# EAGLE library part FMC-LPC-ZED_NOCC (library fmc-lpc)
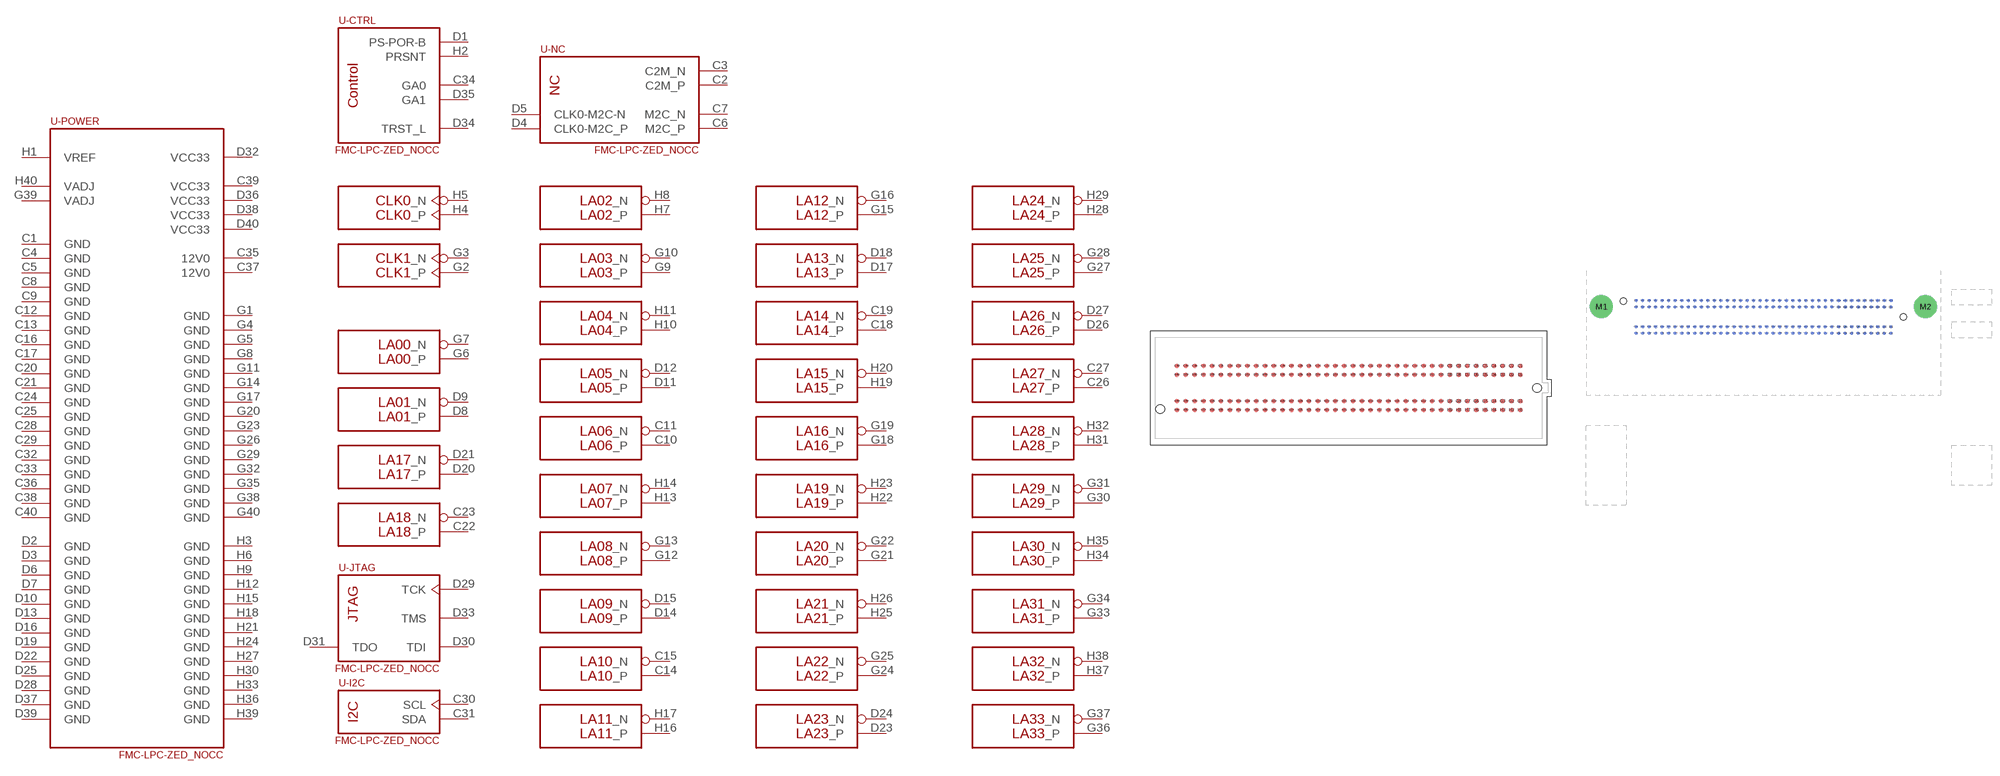
[diagram p2: symbol with the pads of ASP-134604-01; footprints ASP-134604-01, ASP-134604-01-ZED]

Designator prefix -; gates -CTRL=CTRL CLK0=CLK CLK1=CLK LA02=LA LA03=LA LA04=LA LA05=LA LA06=LA LA07=LA LA08=LA LA09=LA LA10=LA LA11=LA LA12=LA LA13=LA LA14=LA LA15=LA LA16=LA LA19=LA LA20=LA LA21=LA LA22=LA LA23=LA LA24=LA LA25=LA LA26=LA LA27=LA LA28=LA LA29=LA LA30=LA LA31=LA LA32=LA LA33=LA LA00=LA LA01=LA LA17=LA LA18=LA -POWER=POWER -JTAG=JTAG -I2C=I2C -NC=NC

## FMC-LPC-ZED_NOCC  [ASP-134604-01]
C1  -POWER:GND
C2  -NC:C2M_P  nc
C3  -NC:C2M_N  nc
C4  -POWER:GND
C5  -POWER:GND
C6  -NC:M2C_P  nc
C7  -NC:M2C_N  nc
C8  -POWER:GND
C9  -POWER:GND
C10  LA06:_P
C11  LA06:_N
C12  -POWER:GND
C13  -POWER:GND
C14  LA10:_P
C15  LA10:_N
C16  -POWER:GND
C17  -POWER:GND
C18  LA14:_P
C19  LA14:_N
C20  -POWER:GND
C21  -POWER:GND
C22  LA18:_P
C23  LA18:_N
C24  -POWER:GND
C25  -POWER:GND
C26  LA27:_P
C27  LA27:_N
C28  -POWER:GND
C29  -POWER:GND
C30  -I2C:SCL
C31  -I2C:SDA
C32  -POWER:GND
C33  -POWER:GND
C34  -CTRL:GA0  out
C35  -POWER:12V0
C36  -POWER:GND
C37  -POWER:12V0
C38  -POWER:GND
C39  -POWER:VCC33
C40  -POWER:GND
D1  -CTRL:PS-POR-B  out
D2  -POWER:GND
D3  -POWER:GND
D4  -NC:CLK0-M2C_P  nc
D5  -NC:CLK0-M2C-N  nc
D6  -POWER:GND
D7  -POWER:GND
D8  LA01:_P
D9  LA01:_N
D10  -POWER:GND
D11  LA05:_P
D12  LA05:_N
D13  -POWER:GND
D14  LA09:_P
D15  LA09:_N
D16  -POWER:GND
D17  LA13:_P
D18  LA13:_N
D19  -POWER:GND
D20  LA17:_P
D21  LA17:_N
D22  -POWER:GND
D23  LA23:_P
D24  LA23:_N
D25  -POWER:GND
D26  LA26:_P
D27  LA26:_N
D28  -POWER:GND
D29  -JTAG:TCK  out
D30  -JTAG:TDI  out
D31  -JTAG:TDO  in
D32  -POWER:VCC33
D33  -JTAG:TMS  out
D34  -CTRL:TRST_L
D35  -CTRL:GA1  out
D36  -POWER:VCC33
D37  -POWER:GND
D38  -POWER:VCC33
D39  -POWER:GND
D40  -POWER:VCC33
G1  -POWER:GND
G2  CLK1:_P
G3  CLK1:_N
G4  -POWER:GND
G5  -POWER:GND
G6  LA00:_P
G7  LA00:_N
G8  -POWER:GND
G9  LA03:_P
G10  LA03:_N
G11  -POWER:GND
G12  LA08:_P
G13  LA08:_N
G14  -POWER:GND
G15  LA12:_P
G16  LA12:_N
G17  -POWER:GND
G18  LA16:_P
G19  LA16:_N
G20  -POWER:GND
G21  LA20:_P
G22  LA20:_N
G23  -POWER:GND
G24  LA22:_P
G25  LA22:_N
G26  -POWER:GND
G27  LA25:_P
G28  LA25:_N
G29  -POWER:GND
G30  LA29:_P
G31  LA29:_N
G32  -POWER:GND
G33  LA31:_P
G34  LA31:_N
G35  -POWER:GND
G36  LA33:_P
G37  LA33:_N
G38  -POWER:GND
G39  -POWER:VADJ
G40  -POWER:GND
H1  -POWER:VREF
H2  -CTRL:PRSNT  out
H3  -POWER:GND
H4  CLK0:_P
H5  CLK0:_N
H6  -POWER:GND
H7  LA02:_P
H8  LA02:_N
H9  -POWER:GND
H10  LA04:_P
H11  LA04:_N
H12  -POWER:GND
H13  LA07:_P
H14  LA07:_N
H15  -POWER:GND
H16  LA11:_P
H17  LA11:_N
H18  -POWER:GND
H19  LA15:_P
H20  LA15:_N
H21  -POWER:GND
H22  LA19:_P
H23  LA19:_N
H24  -POWER:GND
H25  LA21:_P
H26  LA21:_N
H27  -POWER:GND
H28  LA24:_P
H29  LA24:_N
H30  -POWER:GND
H31  LA28:_P
H32  LA28:_N
H33  -POWER:GND
H34  LA30:_P
H35  LA30:_N
H36  -POWER:GND
H37  LA32:_P
H38  LA32:_N
H39  -POWER:GND
H40  -POWER:VADJ

## FMC-LPC-ZED_NOCCZED  [ASP-134604-01-ZED]
Pads as for ASP-134604-01

## Footprint ASP-134604-01 (pad centres in mm)
smd 0.635 x 0.635: C1 24.765,3.175; C2 23.495,3.175; C3 22.225,3.175; C4 20.955,3.175; C5 19.685,3.175; C6 18.415,3.175; C7 17.145,3.175; C8 15.875,3.175; C9 14.605,3.175; C10 13.335,3.175; C11 12.065,3.175; C12 10.795,3.175; C13 9.525,3.175; C14 8.255,3.175; C15 6.985,3.175; C16 5.715,3.175; C17 4.445,3.175; C18 3.175,3.175; C19 1.905,3.175; C20 0.635,3.175; C21 -0.635,3.175; C22 -1.905,3.175; C23 -3.175,3.175; C24 -4.445,3.175; C25 -5.715,3.175; C26 -6.985,3.175; C27 -8.255,3.175; C28 -9.525,3.175; C29 -10.795,3.175; C30 -12.065,3.175; C31 -13.335,3.175; C32 -14.605,3.175; C33 -15.875,3.175; C34 -17.145,3.175; C35 -18.415,3.175; C36 -19.685,3.175; C37 -20.955,3.175; C38 -22.225,3.175; C39 -23.495,3.175; C40 -24.765,3.175; D1 24.765,1.905; D2 23.495,1.905; D3 22.225,1.905; D4 20.955,1.905; D5 19.685,1.905; D6 18.415,1.905; D7 17.145,1.905; D8 15.875,1.905; D9 14.605,1.905; D10 13.335,1.905; D11 12.065,1.905; D12 10.795,1.905; D13 9.525,1.905; D14 8.255,1.905; D15 6.985,1.905; D16 5.715,1.905; D17 4.445,1.905; D18 3.175,1.905; D19 1.905,1.905; D20 0.635,1.905; D21 -0.635,1.905; D22 -1.905,1.905; D23 -3.175,1.905; D24 -4.445,1.905; D25 -5.715,1.905; D26 -6.985,1.905; D27 -8.255,1.905; D28 -9.525,1.905; D29 -10.795,1.905; D30 -12.065,1.905; D31 -13.335,1.905; D32 -14.605,1.905; D33 -15.875,1.905; D34 -17.145,1.905; D35 -18.415,1.905; D36 -19.685,1.905; D37 -20.955,1.905; D38 -22.225,1.905; D39 -23.495,1.905; D40 -24.765,1.905; G1 24.765,-1.905; G2 23.495,-1.905; G3 22.225,-1.905; G4 20.955,-1.905; G5 19.685,-1.905; G6 18.415,-1.905; G7 17.145,-1.905; G8 15.875,-1.905; G9 14.605,-1.905; G10 13.335,-1.905; G11 12.065,-1.905; G12 10.795,-1.905; G13 9.525,-1.905; G14 8.255,-1.905; G15 6.985,-1.905; G16 5.715,-1.905; G17 4.445,-1.905; G18 3.175,-1.905; G19 1.905,-1.905; G20 0.635,-1.905; G21 -0.635,-1.905; G22 -1.905,-1.905; G23 -3.175,-1.905; G24 -4.445,-1.905; G25 -5.715,-1.905; G26 -6.985,-1.905; G27 -8.255,-1.905; G28 -9.525,-1.905; G29 -10.795,-1.905; G30 -12.065,-1.905; G31 -13.335,-1.905; G32 -14.605,-1.905; G33 -15.875,-1.905; G34 -17.145,-1.905; G35 -18.415,-1.905; G36 -19.685,-1.905; G37 -20.955,-1.905; G38 -22.225,-1.905; G39 -23.495,-1.905; G40 -24.765,-1.905; H1 24.765,-3.175; H2 23.495,-3.175; H3 22.225,-3.175; H4 20.955,-3.175; H5 19.685,-3.175; H6 18.415,-3.175; H7 17.145,-3.175; H8 15.875,-3.175; H9 14.605,-3.175; H10 13.335,-3.175; H11 12.065,-3.175; H12 10.795,-3.175; H13 9.525,-3.175; H14 8.255,-3.175; H15 6.985,-3.175; H16 5.715,-3.175; H17 4.445,-3.175; H18 3.175,-3.175; H19 1.905,-3.175; H20 0.635,-3.175; H21 -0.635,-3.175; H22 -1.905,-3.175; H23 -3.175,-3.175; H24 -4.445,-3.175; H25 -5.715,-3.175; H26 -6.985,-3.175; H27 -8.255,-3.175; H28 -9.525,-3.175; H29 -10.795,-3.175; H30 -12.065,-3.175; H31 -13.335,-3.175; H32 -14.605,-3.175; H33 -15.875,-3.175; H34 -17.145,-3.175; H35 -18.415,-3.175; H36 -19.685,-3.175; H37 -20.955,-3.175; H38 -22.225,-3.175; H39 -23.495,-3.175; H40 -24.765,-3.175
hole 1.27 at 27.191,0
hole 1.27 at -27.191,-3.048

## Footprint ASP-134604-01-ZED (pad centres in mm)
smd 0.635 x 0.635 bottom: C1 24.765,-3.175; C2 23.495,-3.175; C3 22.225,-3.175; C4 20.955,-3.175; C5 19.685,-3.175; C6 18.415,-3.175; C7 17.145,-3.175; C8 15.875,-3.175; C9 14.605,-3.175; C10 13.335,-3.175; C11 12.065,-3.175; C12 10.795,-3.175; C13 9.525,-3.175; C14 8.255,-3.175; C15 6.985,-3.175; C16 5.715,-3.175; C17 4.445,-3.175; C18 3.175,-3.175; C19 1.905,-3.175; C20 0.635,-3.175; C21 -0.635,-3.175; C22 -1.905,-3.175; C23 -3.175,-3.175; C24 -4.445,-3.175; C25 -5.715,-3.175; C26 -6.985,-3.175; C27 -8.255,-3.175; C28 -9.525,-3.175; C29 -10.795,-3.175; C30 -12.065,-3.175; C31 -13.335,-3.175; C32 -14.605,-3.175; C33 -15.875,-3.175; C34 -17.145,-3.175; C35 -18.415,-3.175; C36 -19.685,-3.175; C37 -20.955,-3.175; C38 -22.225,-3.175; C39 -23.495,-3.175; C40 -24.765,-3.175; D1 24.765,-1.905; D2 23.495,-1.905; D3 22.225,-1.905; D4 20.955,-1.905; D5 19.685,-1.905; D6 18.415,-1.905; D7 17.145,-1.905; D8 15.875,-1.905; D9 14.605,-1.905; D10 13.335,-1.905; D11 12.065,-1.905; D12 10.795,-1.905; D13 9.525,-1.905; D14 8.255,-1.905; D15 6.985,-1.905; D16 5.715,-1.905; D17 4.445,-1.905; D18 3.175,-1.905; D19 1.905,-1.905; D20 0.635,-1.905; D21 -0.635,-1.905; D22 -1.905,-1.905; D23 -3.175,-1.905; D24 -4.445,-1.905; D25 -5.715,-1.905; D26 -6.985,-1.905; D27 -8.255,-1.905; D28 -9.525,-1.905; D29 -10.795,-1.905; D30 -12.065,-1.905; D31 -13.335,-1.905; D32 -14.605,-1.905; D33 -15.875,-1.905; D34 -17.145,-1.905; D35 -18.415,-1.905; D36 -19.685,-1.905; D37 -20.955,-1.905; D38 -22.225,-1.905; D39 -23.495,-1.905; D40 -24.765,-1.905; G1 24.765,1.905; G2 23.495,1.905; G3 22.225,1.905; G4 20.955,1.905; G5 19.685,1.905; G6 18.415,1.905; G7 17.145,1.905; G8 15.875,1.905; G9 14.605,1.905; G10 13.335,1.905; G11 12.065,1.905; G12 10.795,1.905; G13 9.525,1.905; G14 8.255,1.905; G15 6.985,1.905; G16 5.715,1.905; G17 4.445,1.905; G18 3.175,1.905; G19 1.905,1.905; G20 0.635,1.905; G21 -0.635,1.905; G22 -1.905,1.905; G23 -3.175,1.905; G24 -4.445,1.905; G25 -5.715,1.905; G26 -6.985,1.905; G27 -8.255,1.905; G28 -9.525,1.905; G29 -10.795,1.905; G30 -12.065,1.905; G31 -13.335,1.905; G32 -14.605,1.905; G33 -15.875,1.905; G34 -17.145,1.905; G35 -18.415,1.905; G36 -19.685,1.905; G37 -20.955,1.905; G38 -22.225,1.905; G39 -23.495,1.905; G40 -24.765,1.905; H1 24.765,3.175; H2 23.495,3.175; H3 22.225,3.175; H4 20.955,3.175; H5 19.685,3.175; H6 18.415,3.175; H7 17.145,3.175; H8 15.875,3.175; H9 14.605,3.175; H10 13.335,3.175; H11 12.065,3.175; H12 10.795,3.175; H13 9.525,3.175; H14 8.255,3.175; H15 6.985,3.175; H16 5.715,3.175; H17 4.445,3.175; H18 3.175,3.175; H19 1.905,3.175; H20 0.635,3.175; H21 -0.635,3.175; H22 -1.905,3.175; H23 -3.175,3.175; H24 -4.445,3.175; H25 -5.715,3.175; H26 -6.985,3.175; H27 -8.255,3.175; H28 -9.525,3.175; H29 -10.795,3.175; H30 -12.065,3.175; H31 -13.335,3.175; H32 -14.605,3.175; H33 -15.875,3.175; H34 -17.145,3.175; H35 -18.415,3.175; H36 -19.685,3.175; H37 -20.955,3.175; H38 -22.225,3.175; H39 -23.495,3.175; H40 -24.765,3.175
drill 2.692 pad 4.445: M1 -31.496,2.007; M2 31.496,2.007
hole 1.27 at 27.191,0
hole 1.27 at -27.191,3.048